# EAGLE library part TMC5130A (library pimoroni-ics)
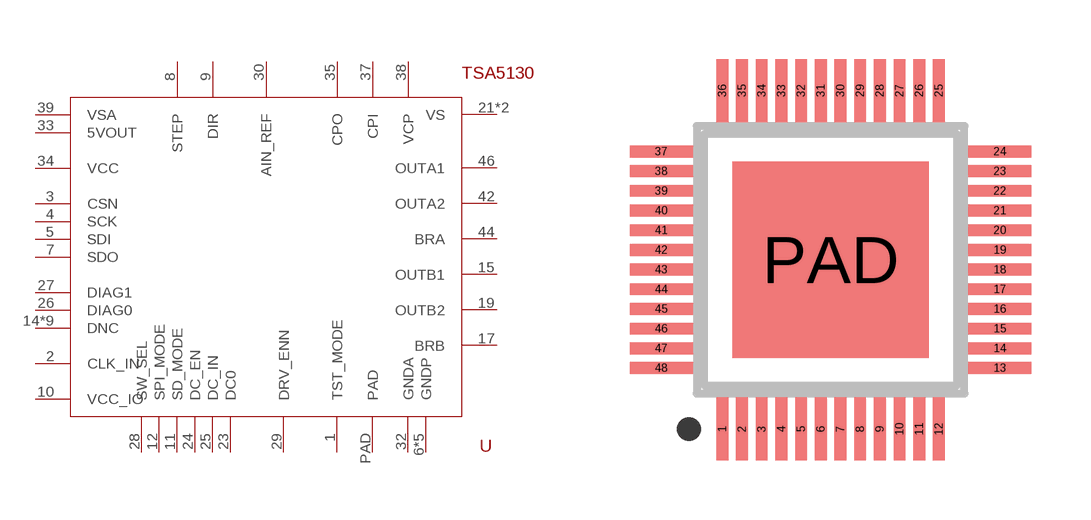
[diagram p107: symbol with the pads of TQFP-S-7X7-48-EP; footprint TQFP-S-7X7-48-EP]

Designator prefix U

## TMC5130A  [TQFP-S-7X7-48-EP]
1  TST_MODE
2  CLK_IN
3  CSN
4  SCK
5  SDI
6  GNDP
7  SDO
8  STEP
9  DIR
10  VCC_IO
11  SD_MODE
12  SPI_MODE
13  GNDP
14  DNC  nc
15  OUTB1
16  DNC  nc
17  BRB
18  DNC  nc
19  OUTB2
20  DNC  nc
21  VS
22  DNC  nc
23  DC0
24  DC_EN
25  DC_IN
26  DIAG0
27  DIAG1
28  SW_SEL
29  DRV_ENN
30  AIN_REF
31  GNDP
32  GNDA
33  5VOUT
34  VCC
35  CPO
36  GNDP
37  CPI
38  VCP
39  VSA
40  VS
41  DNC  nc
42  OUTA2
43  DNC  nc
44  BRA
45  DNC  nc
46  OUTA1
47  DNC  nc
48  GNDP
PAD  PAD

## Footprint TQFP-S-7X7-48-EP (pad centres in mm)
QFP48 shrink quad flat pack, square
smd 0.3 x 1.6: 1 -2.75,-4.3; 2 -2.25,-4.3; 3 -1.75,-4.3; 4 -1.25,-4.3; 5 -0.75,-4.3; 6 -0.25,-4.3; 7 0.25,-4.3; 8 0.75,-4.3; 9 1.25,-4.3; 10 1.75,-4.3; 11 2.25,-4.3; 12 2.75,-4.3; 25 2.75,4.3; 26 2.25,4.3; 27 1.75,4.3; 28 1.25,4.3; 29 0.75,4.3; 30 0.25,4.3; 31 -0.25,4.3; 32 -0.75,4.3; 33 -1.25,4.3; 34 -1.75,4.3; 35 -2.25,4.3; 36 -2.75,4.3
smd 1.6 x 0.3: 13 4.3,-2.75; 14 4.3,-2.25; 15 4.3,-1.75; 16 4.3,-1.25; 17 4.3,-0.75; 18 4.3,-0.25; 19 4.3,0.25; 20 4.3,0.75; 21 4.3,1.25; 22 4.3,1.75; 23 4.3,2.25; 24 4.3,2.75; 37 -4.3,2.75; 38 -4.3,2.25; 39 -4.3,1.75; 40 -4.3,1.25; 41 -4.3,0.75; 42 -4.3,0.25; 43 -4.3,-0.25; 44 -4.3,-0.75; 45 -4.3,-1.25; 46 -4.3,-1.75; 47 -4.3,-2.25; 48 -4.3,-2.75
smd 5 x 5: PAD 0,0